# Altium schematic symbol library XC7A12T_1CPG238I.SchLib: 2 symbols
Pins are listed as number, name and electrical type; pins without a type are passive.

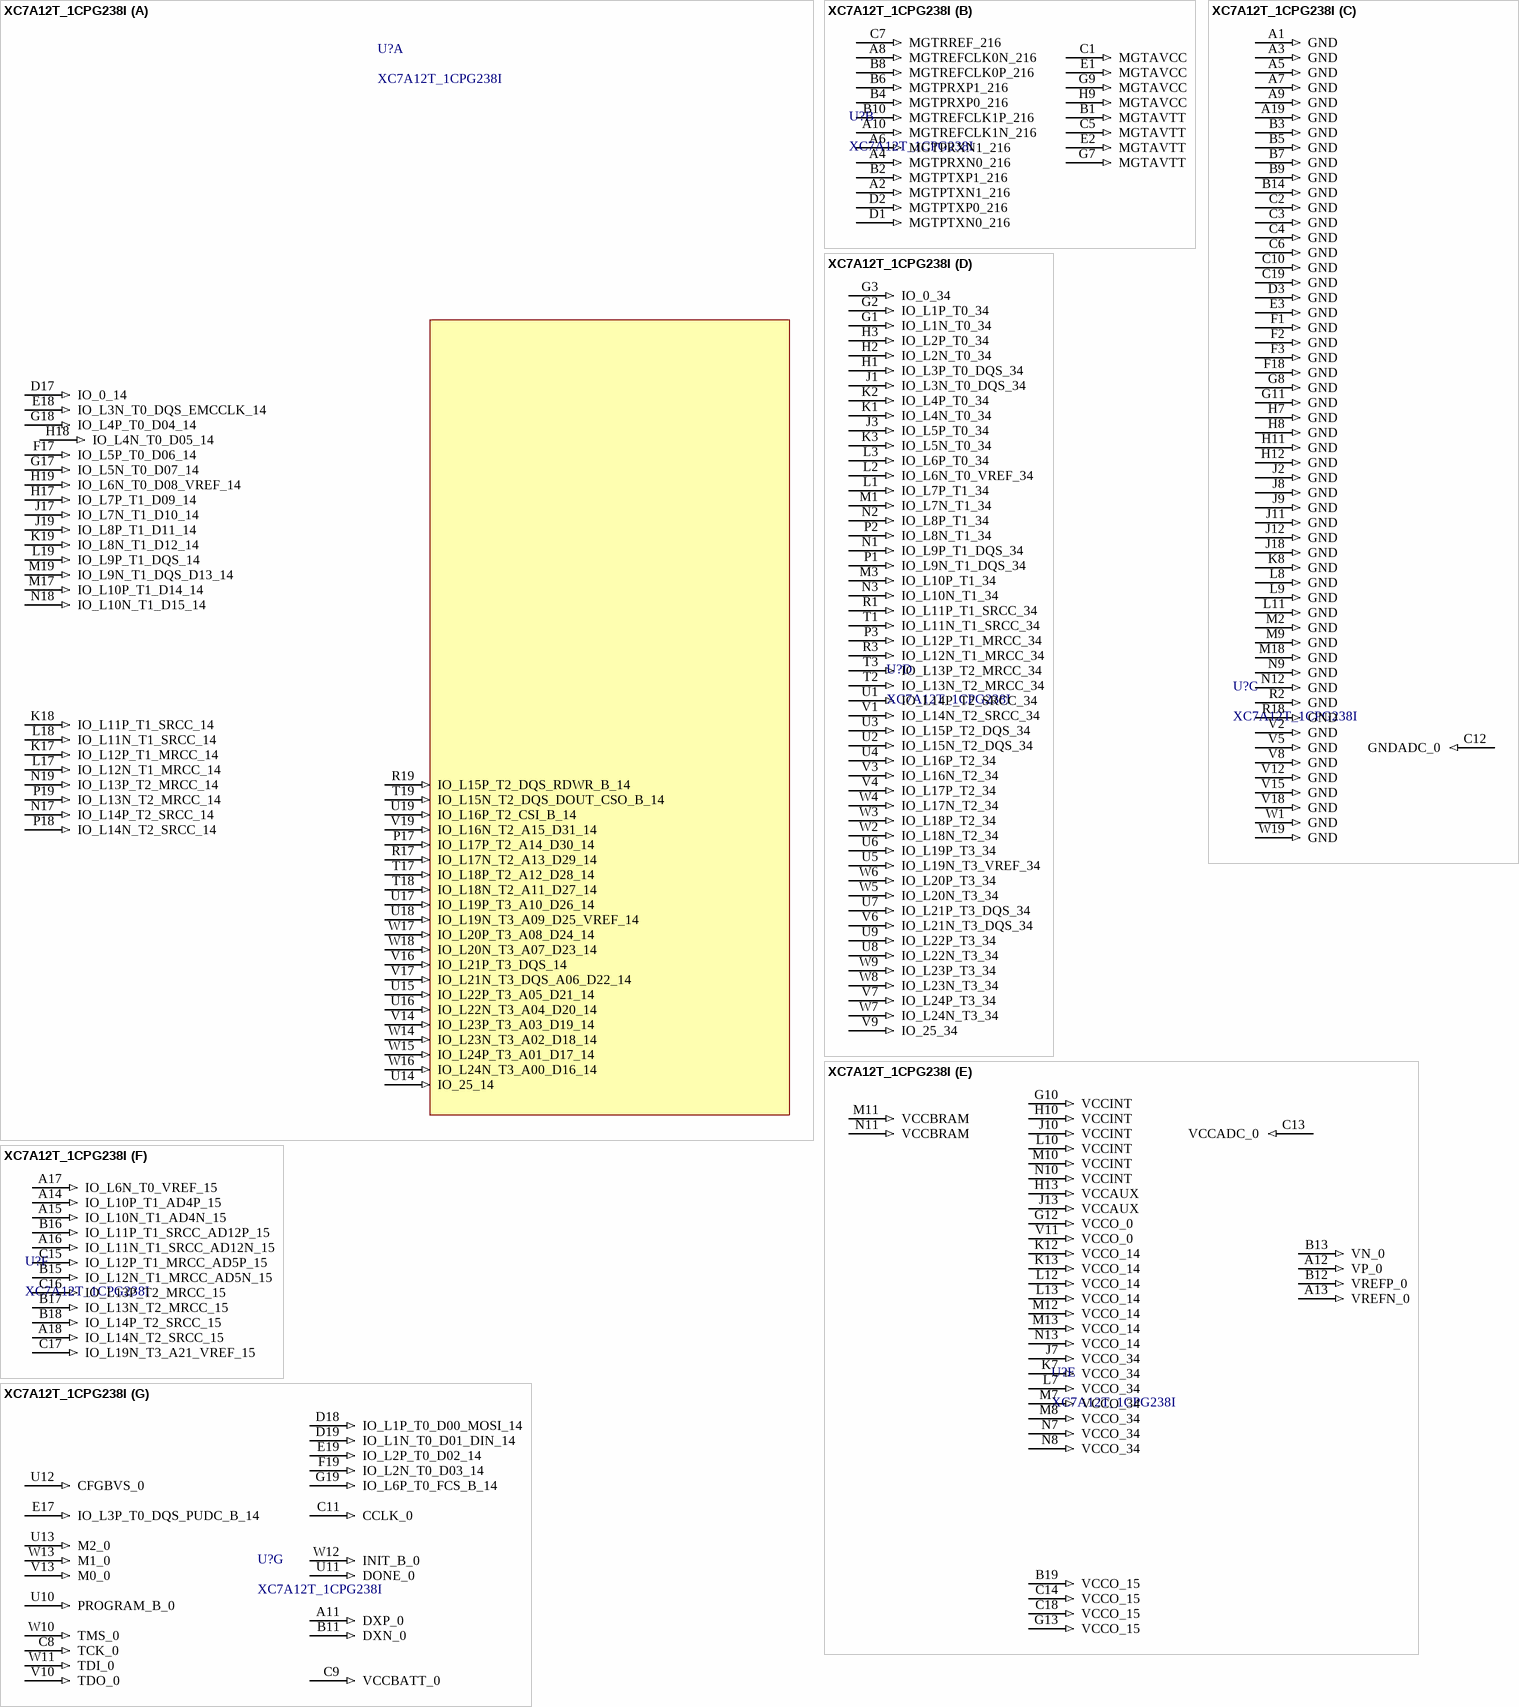
[diagram p0: symbol XC7A12T_1CPG238I]

## XC7A12T_1CPG238I
designator U?
part A pins: D17 IO_0_14 (in), E18 IO_L3N_T0_DQS_EMCCLK_14 (in), F17 IO_L5P_T0_D06_14 (in), G17 IO_L5N_T0_D07_14 (in), G18 IO_L4P_T0_D04_14 (in), H17 IO_L7P_T1_D09_14 (in), H18 IO_L4N_T0_D05_14 (in), H19 IO_L6N_T0_D08_VREF_14 (in), J17 IO_L7N_T1_D10_14 (in), J19 IO_L8P_T1_D11_14 (in), K17 IO_L12P_T1_MRCC_14 (in), K18 IO_L11P_T1_SRCC_14 (in), K19 IO_L8N_T1_D12_14 (in), L17 IO_L12N_T1_MRCC_14 (in), L18 IO_L11N_T1_SRCC_14 (in), L19 IO_L9P_T1_DQS_14 (in), M17 IO_L10P_T1_D14_14 (in), M19 IO_L9N_T1_DQS_D13_14 (in), N17 IO_L14P_T2_SRCC_14 (in), N18 IO_L10N_T1_D15_14 (in), N19 IO_L13P_T2_MRCC_14 (in), P17 IO_L17P_T2_A14_D30_14 (in), P18 IO_L14N_T2_SRCC_14 (in), P19 IO_L13N_T2_MRCC_14 (in), R17 IO_L17N_T2_A13_D29_14 (in), R19 IO_L15P_T2_DQS_RDWR_B_14 (in), T17 IO_L18P_T2_A12_D28_14 (in), T18 IO_L18N_T2_A11_D27_14 (in), T19 IO_L15N_T2_DQS_DOUT_CSO_B_14 (in), U14 IO_25_14 (in), U15 IO_L22P_T3_A05_D21_14 (in), U16 IO_L22N_T3_A04_D20_14 (in), U17 IO_L19P_T3_A10_D26_14 (in), U18 IO_L19N_T3_A09_D25_VREF_14 (in), U19 IO_L16P_T2_CSI_B_14 (in), V14 IO_L23P_T3_A03_D19_14 (in), V16 IO_L21P_T3_DQS_14 (in), V17 IO_L21N_T3_DQS_A06_D22_14 (in), V19 IO_L16N_T2_A15_D31_14 (in), W14 IO_L23N_T3_A02_D18_14 (in), W15 IO_L24P_T3_A01_D17_14 (in), W16 IO_L24N_T3_A00_D16_14 (in), W17 IO_L20P_T3_A08_D24_14 (in), W18 IO_L20N_T3_A07_D23_14 (in)
part B pins: A2 MGTPTXN1_216 (in), A4 MGTPRXN0_216 (in), A6 MGTPRXN1_216 (in), A8 MGTREFCLK0N_216 (in), A10 MGTREFCLK1N_216 (in), B1 MGTAVTT (in), B2 MGTPTXP1_216 (in), B4 MGTPRXP0_216 (in), B6 MGTPRXP1_216 (in), B8 MGTREFCLK0P_216 (in), B10 MGTREFCLK1P_216 (in), C1 MGTAVCC (in), C5 MGTAVTT (in), C7 MGTRREF_216 (in), D1 MGTPTXN0_216 (in), D2 MGTPTXP0_216 (in), E1 MGTAVCC (in), E2 MGTAVTT (in), G7 MGTAVTT (in), G9 MGTAVCC (in), H9 MGTAVCC (in)
part C pins: A1 GND (in), A3 GND (in), A5 GND (in), A7 GND (in), A9 GND (in), A19 GND (in), B3 GND (in), B5 GND (in), B7 GND (in), B9 GND (in), B14 GND (in), C2 GND (in), C3 GND (in), C4 GND (in), C6 GND (in), C10 GND (in), C12 GNDADC_0 (in), C19 GND (in), D3 GND (in), E3 GND (in), F1 GND (in), F2 GND (in), F3 GND (in), F18 GND (in), G8 GND (in), G11 GND (in), H7 GND (in), H8 GND (in), H11 GND (in), H12 GND (in), J2 GND (in), J8 GND (in), J9 GND (in), J11 GND (in), J12 GND (in), J18 GND (in), K8 GND (in), L8 GND (in), L9 GND (in), L11 GND (in), M2 GND (in), M9 GND (in), M18 GND (in), N9 GND (in), N12 GND (in), R2 GND (in), R18 GND (in), V2 GND (in), V5 GND (in), V8 GND (in), V12 GND (in), V15 GND (in), V18 GND (in), W1 GND (in), W19 GND (in)
part D pins: G1 IO_L1N_T0_34 (in), G2 IO_L1P_T0_34 (in), G3 IO_0_34 (in), H1 IO_L3P_T0_DQS_34 (in), H2 IO_L2N_T0_34 (in), H3 IO_L2P_T0_34 (in), J1 IO_L3N_T0_DQS_34 (in), J3 IO_L5P_T0_34 (in), K1 IO_L4N_T0_34 (in), K2 IO_L4P_T0_34 (in), K3 IO_L5N_T0_34 (in), L1 IO_L7P_T1_34 (in), L2 IO_L6N_T0_VREF_34 (in), L3 IO_L6P_T0_34 (in), M1 IO_L7N_T1_34 (in), M3 IO_L10P_T1_34 (in), N1 IO_L9P_T1_DQS_34 (in), N2 IO_L8P_T1_34 (in), N3 IO_L10N_T1_34 (in), P1 IO_L9N_T1_DQS_34 (in), P2 IO_L8N_T1_34 (in), P3 IO_L12P_T1_MRCC_34 (in), R1 IO_L11P_T1_SRCC_34 (in), R3 IO_L12N_T1_MRCC_34 (in), T1 IO_L11N_T1_SRCC_34 (in), T2 IO_L13N_T2_MRCC_34 (in), T3 IO_L13P_T2_MRCC_34 (in), U1 IO_L14P_T2_SRCC_34 (in), U2 IO_L15N_T2_DQS_34 (in), U3 IO_L15P_T2_DQS_34 (in), U4 IO_L16P_T2_34 (in), U5 IO_L19N_T3_VREF_34 (in), U6 IO_L19P_T3_34 (in), U7 IO_L21P_T3_DQS_34 (in), U8 IO_L22N_T3_34 (in), U9 IO_L22P_T3_34 (in), V1 IO_L14N_T2_SRCC_34 (in), V3 IO_L16N_T2_34 (in), V4 IO_L17P_T2_34 (in), V6 IO_L21N_T3_DQS_34 (in), V7 IO_L24P_T3_34 (in), V9 IO_25_34 (in), W2 IO_L18N_T2_34 (in), W3 IO_L18P_T2_34 (in), W4 IO_L17N_T2_34 (in), W5 IO_L20N_T3_34 (in), W6 IO_L20P_T3_34 (in), W7 IO_L24N_T3_34 (in), W8 IO_L23N_T3_34 (in), W9 IO_L23P_T3_34 (in)
part E pins: A12 VP_0 (in), A13 VREFN_0 (in), B12 VREFP_0 (in), B13 VN_0 (in), B19 VCCO_15 (in), C13 VCCADC_0 (in), C14 VCCO_15 (in), C18 VCCO_15 (in), G10 VCCINT (in), G12 VCCO_0 (in), G13 VCCO_15 (in), H10 VCCINT (in), H13 VCCAUX (in), J7 VCCO_34 (in), J10 VCCINT (in), J13 VCCAUX (in), K7 VCCO_34 (in), K12 VCCO_14 (in), K13 VCCO_14 (in), L7 VCCO_34 (in), L10 VCCINT (in), L12 VCCO_14 (in), L13 VCCO_14 (in), M7 VCCO_34 (in), M8 VCCO_34 (in), M10 VCCINT (in), M11 VCCBRAM (in), M12 VCCO_14 (in), M13 VCCO_14 (in), N7 VCCO_34 (in), N8 VCCO_34 (in), N10 VCCINT (in), N11 VCCBRAM (in), N13 VCCO_14 (in), V11 VCCO_0 (in)
part F pins: A14 IO_L10P_T1_AD4P_15 (in), A15 IO_L10N_T1_AD4N_15 (in), A16 IO_L11N_T1_SRCC_AD12N_15 (in), A17 IO_L6N_T0_VREF_15 (in), A18 IO_L14N_T2_SRCC_15 (in), B15 IO_L12N_T1_MRCC_AD5N_15 (in), B16 IO_L11P_T1_SRCC_AD12P_15 (in), B17 IO_L13N_T2_MRCC_15 (in), B18 IO_L14P_T2_SRCC_15 (in), C15 IO_L12P_T1_MRCC_AD5P_15 (in), C16 IO_L13P_T2_MRCC_15 (in), C17 IO_L19N_T3_A21_VREF_15 (in)
part G pins: A11 DXP_0 (in), B11 DXN_0 (in), C8 TCK_0 (in), C9 VCCBATT_0 (in), C11 CCLK_0 (in), D18 IO_L1P_T0_D00_MOSI_14 (in), D19 IO_L1N_T0_D01_DIN_14 (in), E17 IO_L3P_T0_DQS_PUDC_B_14 (in), E19 IO_L2P_T0_D02_14 (in), F19 IO_L2N_T0_D03_14 (in), G19 IO_L6P_T0_FCS_B_14 (in), U10 PROGRAM_B_0 (in), U11 DONE_0 (in), U12 CFGBVS_0 (in), U13 M2_0 (in), V10 TDO_0 (in), V13 M0_0 (in), W10 TMS_0 (in), W11 TDI_0 (in), W12 INIT_B_0 (in), W13 M1_0 (in)

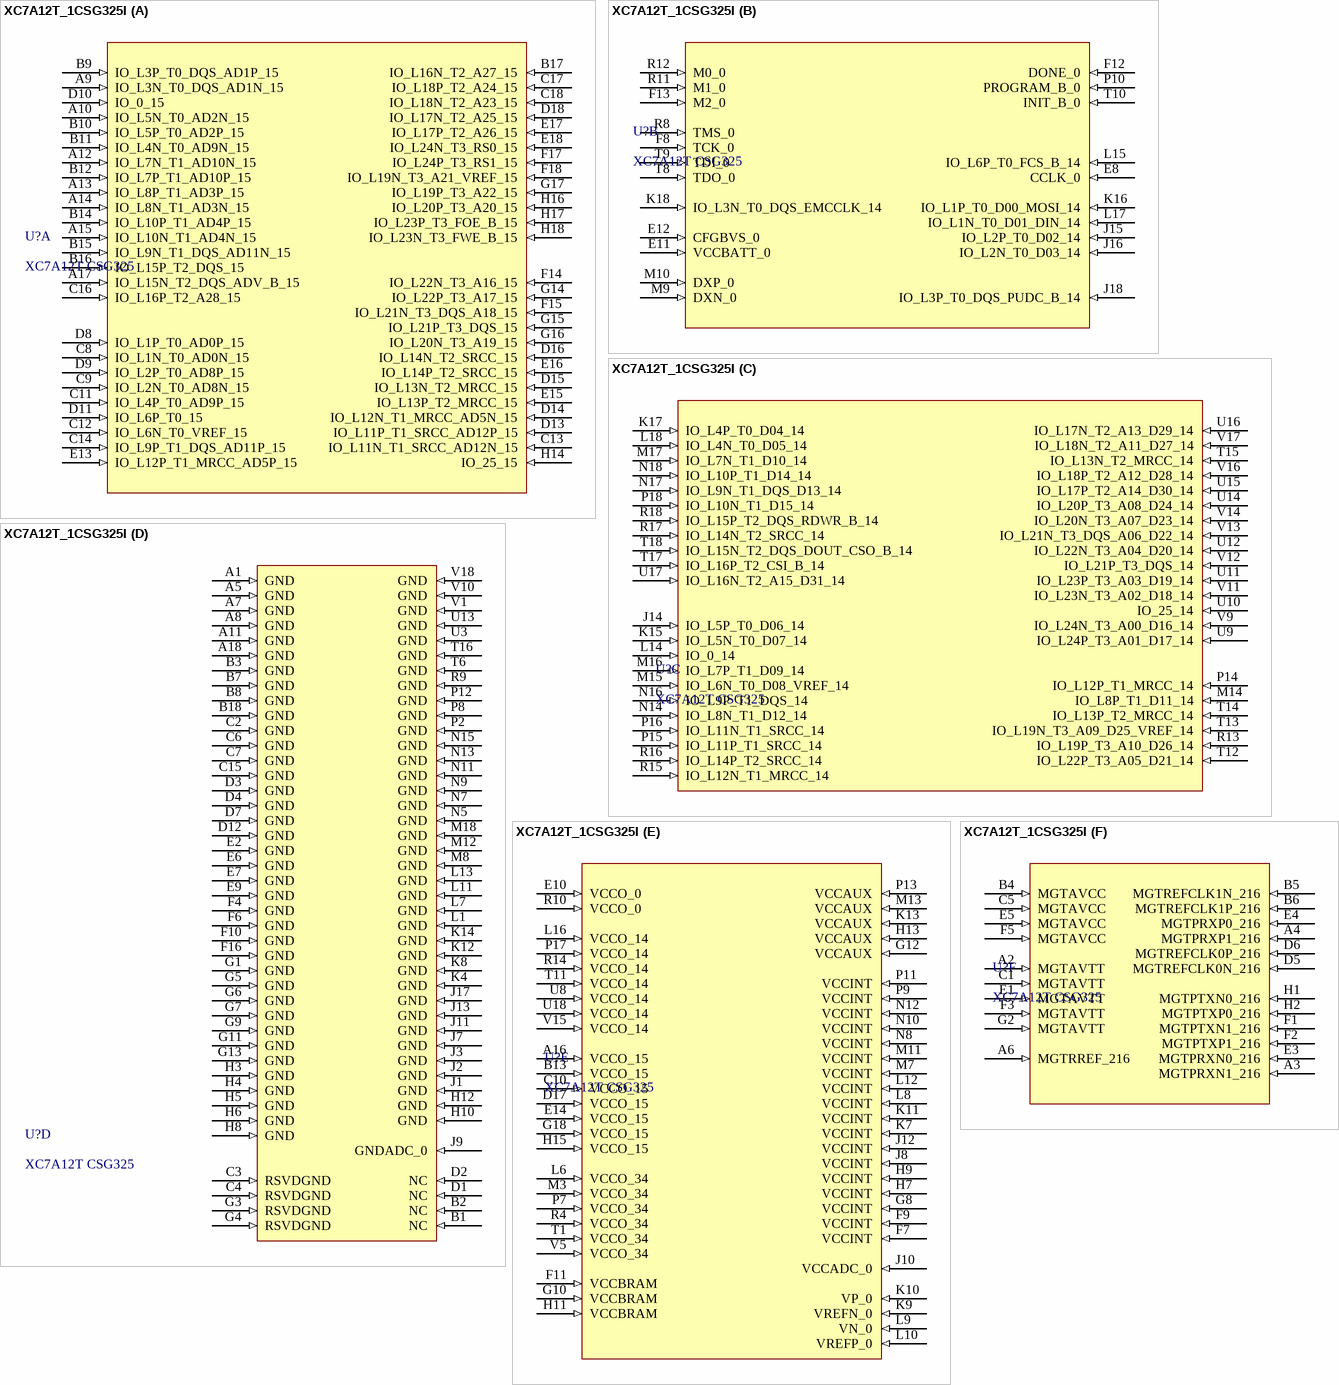
[diagram p1: symbol XC7A12T_1CSG325I]

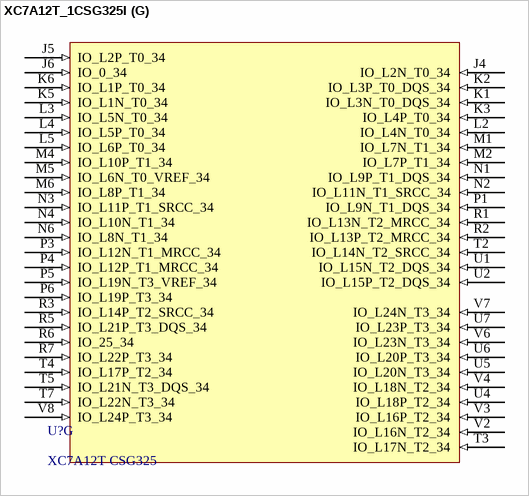
[diagram p2: symbol XC7A12T_1CSG325I]

## XC7A12T_1CSG325I
designator U?, comment XC7A12T CSG325
footprint BGA324C80P18X18_1500X1500X150 (BGA, 324-Leads, Body 15.00x15.00mmx1.50mm, Pitch 0.80mm)
part A pins: A9 IO_L3N_T0_DQS_AD1N_15 (in), A10 IO_L5N_T0_AD2N_15 (in), A12 IO_L7N_T1_AD10N_15 (in), A13 IO_L8P_T1_AD3P_15 (in), A14 IO_L8N_T1_AD3N_15 (in), A15 IO_L10N_T1_AD4N_15 (in), A17 IO_L15N_T2_DQS_ADV_B_15 (in), B9 IO_L3P_T0_DQS_AD1P_15 (in), B10 IO_L5P_T0_AD2P_15 (in), B11 IO_L4N_T0_AD9N_15 (in), B12 IO_L7P_T1_AD10P_15 (in), B14 IO_L10P_T1_AD4P_15 (in), B15 IO_L9N_T1_DQS_AD11N_15 (in), B16 IO_L15P_T2_DQS_15 (in), B17 IO_L16N_T2_A27_15 (in), C8 IO_L1N_T0_AD0N_15 (in), C9 IO_L2N_T0_AD8N_15 (in), C11 IO_L4P_T0_AD9P_15 (in), C12 IO_L6N_T0_VREF_15 (in), C13 IO_L11N_T1_SRCC_AD12N_15 (in), C14 IO_L9P_T1_DQS_AD11P_15 (in), C16 IO_L16P_T2_A28_15 (in), C17 IO_L18P_T2_A24_15 (in), C18 IO_L18N_T2_A23_15 (in), D8 IO_L1P_T0_AD0P_15 (in), D9 IO_L2P_T0_AD8P_15 (in), D10 IO_0_15 (in), D11 IO_L6P_T0_15 (in), D13 IO_L11P_T1_SRCC_AD12P_15 (in), D14 IO_L12N_T1_MRCC_AD5N_15 (in), D15 IO_L13N_T2_MRCC_15 (in), D16 IO_L14N_T2_SRCC_15 (in), D18 IO_L17N_T2_A25_15 (in), E13 IO_L12P_T1_MRCC_AD5P_15 (in), E15 IO_L13P_T2_MRCC_15 (in), E16 IO_L14P_T2_SRCC_15 (in), E17 IO_L17P_T2_A26_15 (in), E18 IO_L24N_T3_RS0_15 (in), F14 IO_L22N_T3_A16_15 (in), F15 IO_L21N_T3_DQS_A18_15 (in), F17 IO_L24P_T3_RS1_15 (in), F18 IO_L19N_T3_A21_VREF_15 (in), G14 IO_L22P_T3_A17_15 (in), G15 IO_L21P_T3_DQS_15 (in), G16 IO_L20N_T3_A19_15 (in), G17 IO_L19P_T3_A22_15 (in), H14 IO_25_15 (in), H16 IO_L20P_T3_A20_15 (in), H17 IO_L23P_T3_FOE_B_15 (in), H18 IO_L23N_T3_FWE_B_15 (in)
part B pins: E8 CCLK_0 (in), E11 VCCBATT_0 (in), E12 CFGBVS_0 (in), F8 TCK_0 (in), F12 DONE_0 (in), F13 M2_0 (in), J15 IO_L2P_T0_D02_14 (in), J16 IO_L2N_T0_D03_14 (in), J18 IO_L3P_T0_DQS_PUDC_B_14 (in), K16 IO_L1P_T0_D00_MOSI_14 (in), K18 IO_L3N_T0_DQS_EMCCLK_14 (in), L15 IO_L6P_T0_FCS_B_14 (in), L17 IO_L1N_T0_D01_DIN_14 (in), M9 DXN_0 (in), M10 DXP_0 (in), P10 PROGRAM_B_0 (in), R8 TMS_0 (in), R11 M1_0 (in), R12 M0_0 (in), T8 TDO_0 (in), T9 TDI_0 (in), T10 INIT_B_0 (in)
part C pins: J14 IO_L5P_T0_D06_14 (in), K15 IO_L5N_T0_D07_14 (in), K17 IO_L4P_T0_D04_14 (in), L14 IO_0_14 (in), L18 IO_L4N_T0_D05_14 (in), M14 IO_L8P_T1_D11_14 (in), M15 IO_L6N_T0_D08_VREF_14 (in), M16 IO_L7P_T1_D09_14 (in), M17 IO_L7N_T1_D10_14 (in), N14 IO_L8N_T1_D12_14 (in), N16 IO_L9P_T1_DQS_14 (in), N17 IO_L9N_T1_DQS_D13_14 (in), N18 IO_L10P_T1_D14_14 (in), P14 IO_L12P_T1_MRCC_14 (in), P15 IO_L11P_T1_SRCC_14 (in), P16 IO_L11N_T1_SRCC_14 (in), P18 IO_L10N_T1_D15_14 (in), R13 IO_L19P_T3_A10_D26_14 (in), R15 IO_L12N_T1_MRCC_14 (in), R16 IO_L14P_T2_SRCC_14 (in), R17 IO_L14N_T2_SRCC_14 (in), R18 IO_L15P_T2_DQS_RDWR_B_14 (in), T12 IO_L22P_T3_A05_D21_14 (in), T13 IO_L19N_T3_A09_D25_VREF_14 (in), T14 IO_L13P_T2_MRCC_14 (in), T15 IO_L13N_T2_MRCC_14 (in), T17 IO_L16P_T2_CSI_B_14 (in), T18 IO_L15N_T2_DQS_DOUT_CSO_B_14 (in), U9 IO_L24P_T3_A01_D17_14 (in), U10 IO_25_14 (in), U11 IO_L23P_T3_A03_D19_14 (in), U12 IO_L22N_T3_A04_D20_14 (in), U14 IO_L20P_T3_A08_D24_14 (in), U15 IO_L17P_T2_A14_D30_14 (in), U16 IO_L17N_T2_A13_D29_14 (in), U17 IO_L16N_T2_A15_D31_14 (in), V9 IO_L24N_T3_A00_D16_14 (in), V11 IO_L23N_T3_A02_D18_14 (in), V12 IO_L21P_T3_DQS_14 (in), V13 IO_L21N_T3_DQS_A06_D22_14 (in), V14 IO_L20N_T3_A07_D23_14 (in), V16 IO_L18P_T2_A12_D28_14 (in), V17 IO_L18N_T2_A11_D27_14 (in)
part D pins: A1 GND (in), A5 GND (in), A7 GND (in), A8 GND (in), A11 GND (in), A18 GND (in), B1 NC (in), B2 NC (in), B3 GND (in), B7 GND (in), B8 GND (in), B18 GND (in), C2 GND (in), C3 RSVDGND (in), C4 RSVDGND (in), C6 GND (in), C7 GND (in), C15 GND (in), D1 NC (in), D2 NC (in), D3 GND (in), D4 GND (in), D7 GND (in), D12 GND (in), E2 GND (in), E6 GND (in), E7 GND (in), E9 GND (in), F4 GND (in), F6 GND (in), F10 GND (in), F16 GND (in), G1 GND (in), G3 RSVDGND (in), G4 RSVDGND (in), G5 GND (in), G6 GND (in), G7 GND (in), G9 GND (in), G11 GND (in), G13 GND (in), H3 GND (in), H4 GND (in), H5 GND (in), H6 GND (in), H8 GND (in), H10 GND (in), H12 GND (in), J1 GND (in), J2 GND (in), J3 GND (in), J7 GND (in), J9 GNDADC_0 (in), J11 GND (in), J13 GND (in), J17 GND (in), K4 GND (in), K8 GND (in), K12 GND (in), K14 GND (in), L1 GND (in), L7 GND (in), L11 GND (in), L13 GND (in), M8 GND (in), M12 GND (in), M18 GND (in), N5 GND (in), N7 GND (in), N9 GND (in), N11 GND (in), N13 GND (in), N15 GND (in), P2 GND (in), P8 GND (in), P12 GND (in), R9 GND (in), T6 GND (in), T16 GND (in), U3 GND (in), U13 GND (in), V1 GND (in), V10 GND (in), V18 GND (in)
part E pins: A16 VCCO_15 (in), B13 VCCO_15 (in), C10 VCCO_15 (in), D17 VCCO_15 (in), E10 VCCO_0 (in), E14 VCCO_15 (in), F7 VCCINT (in), F9 VCCINT (in), F11 VCCBRAM (in), G8 VCCINT (in), G10 VCCBRAM (in), G12 VCCAUX (in), G18 VCCO_15 (in), H7 VCCINT (in), H9 VCCINT (in), H11 VCCBRAM (in), H13 VCCAUX (in), H15 VCCO_15 (in), J8 VCCINT (in), J10 VCCADC_0 (in), J12 VCCINT (in), K7 VCCINT (in), K9 VREFN_0 (in), K10 VP_0 (in), K11 VCCINT (in), K13 VCCAUX (in), L6 VCCO_34 (in), L8 VCCINT (in), L9 VN_0 (in), L10 VREFP_0 (in), L12 VCCINT (in), L16 VCCO_14 (in), M3 VCCO_34 (in), M7 VCCINT (in), M11 VCCINT (in), M13 VCCAUX (in), N8 VCCINT (in), N10 VCCINT (in), N12 VCCINT (in), P7 VCCO_34 (in), P9 VCCINT (in), P11 VCCINT (in), P13 VCCAUX (in), P17 VCCO_14 (in), R4 VCCO_34 (in), R10 VCCO_0 (in), R14 VCCO_14 (in), T1 VCCO_34 (in), T11 VCCO_14 (in), U8 VCCO_14 (in), U18 VCCO_14 (in), V5 VCCO_34 (in), V15 VCCO_14 (in)
part F pins: A2 MGTAVTT (in), A3 MGTPRXN1_216 (in), A4 MGTPRXP1_216 (in), A6 MGTRREF_216 (in), B4 MGTAVCC (in), B5 MGTREFCLK1N_216 (in), B6 MGTREFCLK1P_216 (in), C1 MGTAVTT (in), C5 MGTAVCC (in), D5 MGTREFCLK0N_216 (in), D6 MGTREFCLK0P_216 (in), E1 MGTAVTT (in), E3 MGTPRXN0_216 (in), E4 MGTPRXP0_216 (in), E5 MGTAVCC (in), F1 MGTPTXN1_216 (in), F2 MGTPTXP1_216 (in), F3 MGTAVTT (in), F5 MGTAVCC (in), G2 MGTAVTT (in), H1 MGTPTXN0_216 (in), H2 MGTPTXP0_216 (in)
part G pins: J4 IO_L2N_T0_34 (in), J5 IO_L2P_T0_34 (in), J6 IO_0_34 (in), K1 IO_L3N_T0_DQS_34 (in), K2 IO_L3P_T0_DQS_34 (in), K3 IO_L4P_T0_34 (in), K5 IO_L1N_T0_34 (in), K6 IO_L1P_T0_34 (in), L2 IO_L4N_T0_34 (in), L3 IO_L5N_T0_34 (in), L4 IO_L5P_T0_34 (in), L5 IO_L6P_T0_34 (in), M1 IO_L7N_T1_34 (in), M2 IO_L7P_T1_34 (in), M4 IO_L10P_T1_34 (in), M5 IO_L6N_T0_VREF_34 (in), M6 IO_L8P_T1_34 (in), N1 IO_L9P_T1_DQS_34 (in), N2 IO_L11N_T1_SRCC_34 (in), N3 IO_L11P_T1_SRCC_34 (in), N4 IO_L10N_T1_34 (in), N6 IO_L8N_T1_34 (in), P1 IO_L9N_T1_DQS_34 (in), P3 IO_L12N_T1_MRCC_34 (in), P4 IO_L12P_T1_MRCC_34 (in), P5 IO_L19N_T3_VREF_34 (in), P6 IO_L19P_T3_34 (in), R1 IO_L13N_T2_MRCC_34 (in), R2 IO_L13P_T2_MRCC_34 (in), R3 IO_L14P_T2_SRCC_34 (in), R5 IO_L21P_T3_DQS_34 (in), R6 IO_25_34 (in), R7 IO_L22P_T3_34 (in), T2 IO_L14N_T2_SRCC_34 (in), T3 IO_L17N_T2_34 (in), T4 IO_L17P_T2_34 (in), T5 IO_L21N_T3_DQS_34 (in), T7 IO_L22N_T3_34 (in), U1 IO_L15N_T2_DQS_34 (in), U2 IO_L15P_T2_DQS_34 (in), U4 IO_L18P_T2_34 (in), U5 IO_L20N_T3_34 (in), U6 IO_L20P_T3_34 (in), U7 IO_L23P_T3_34 (in), V2 IO_L16N_T2_34 (in), V3 IO_L16P_T2_34 (in), V4 IO_L18N_T2_34 (in), V6 IO_L23N_T3_34 (in), V7 IO_L24N_T3_34 (in), V8 IO_L24P_T3_34 (in)